# Altium footprint library SAMTEC_TSM-102-01-L-SH-P-TR.PcbLib: 1 footprints
Each footprint in its own frame and in the unit in brackets; x right, y up, seen from the top. Pads: shape width x height; smd on the part's side, far side on the other; paste and mask are expansions set on the pad; w line width, h text height; cw(c..) or ccw(c..) is an arc to the next point about the centre after c.
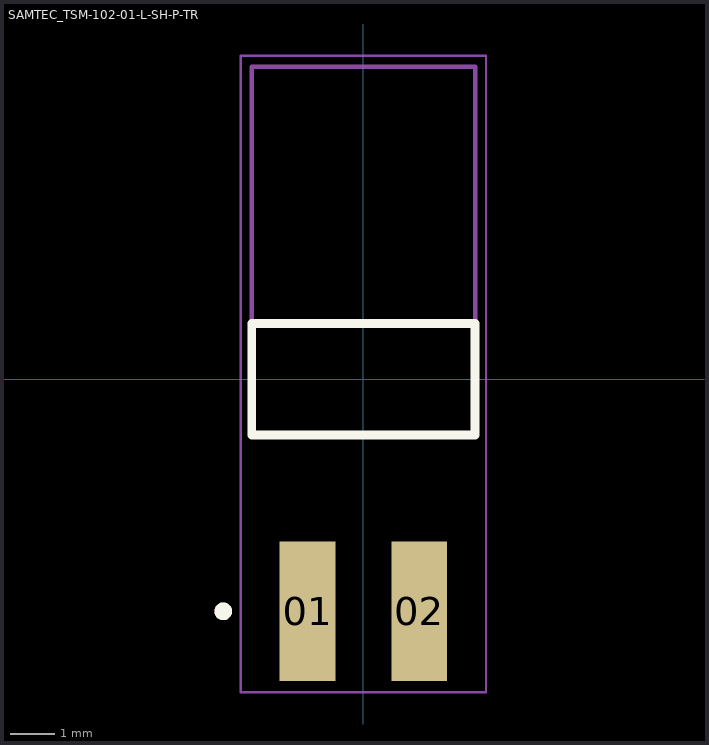
[diagram p0: the footprint, top view; thin cyan lines are the x and y axes]

## SAMTEC_TSM-102-01-L-SH-P-TR [mm]
pads (2):
  rect 1.27x3.18 smd: 01(-1.27,-5.28) 02(1.27,-5.28)
Top Overlay:
  circle w0.2: c-3.19,-5.28 r0.1
  lines w0.2: -2.54,-1.27 2.54,-1.27 2.54,1.27 -2.54,1.27 -2.54,-1.27
Mechanical 13:
  circle w0.2: c-3.19,-5.28 r0.1
  lines w0.1: -2.54,-1.27 -2.54,7.11 2.54,7.11 2.54,-1.27 ; -2.54,-1.27 2.54,-1.27 ; -2.54,-1.27 -2.54,1.27 2.54,1.27 2.54,-1.27
Mechanical 15:
  lines w0.05: -2.79,-7.12 2.79,-7.12 2.79,7.36 -2.79,7.36 -2.79,-7.12
3D body "TSM-102-01-L-SH-P-TR.stp": height 4.32, standoff 0, extent -5.08,-5.842 2.54,7.112